# Altium integrated library Switches.IntLib: 7 symbols
Pins are listed as number, name and electrical type; pins without a type are passive.

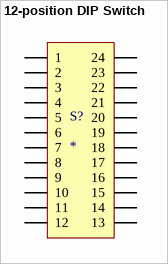
[diagram p0: symbol 12-position DIP Switch]

## 12-position DIP Switch
designator S?
Manufacturer: CTS Electronics; Manufacturer No.: 209-12LPST
footprint 12-Position DIP Switch
pins: 1, 2, 3, 4, 5, 6, 7, 8, 9, 10, 11, 12, 13, 14, 15, 16, 17, 18, 19, 20, 21, 22, 23, 24


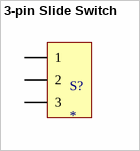
[diagram p1: symbol 3-pin Slide Switch]

## 3-pin Slide Switch
designator S?
Manufacturer: C&K; Mfg No.: OS102011MS2QN1
footprint 3-pin Slide Switch
pins: 1, 2, 3


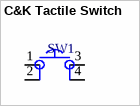
[diagram p2: symbol C&K Tactile Switch]

## C&K Tactile Switch
designator SW1, comment Tactile Switch  (value not drawn)
Supplier 1: Digi-Key; Supplier Part Number 1: CKN9085CT-ND
footprint C&K 4 pin Tactile Switch (Digikey: CKN9085CT-ND MFG: PTS645SH50SMTR92 LFS)
pins: 1, 2, 3, 4


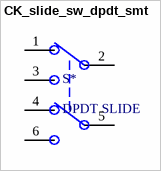
[diagram p3: symbol CK_slide_sw_dpdt_smt]

## CK_slide_sw_dpdt_smt
designator S*, comment DPDT SLIDE
SWITCH SLIDE DPDT 300MA 6V; Manufacturer 1: C&K; Manufacturer Part Number 1: JS202011SCQN; Supplier 1: Digi-Key; Supplier Part Number 1: 401-2002-1-ND
footprint CK_slide_sw_dpdt_smt (SWITCH SLIDE DPDT 300MA 6V)
pins: 1, 2, 3, 4, 5, 6


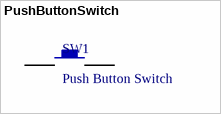
[diagram p4: symbol PushButtonSwitch]

## PushButtonSwitch
designator SW1, comment Push Button Switch
footprint Push Button Switch
pins: 1, 2


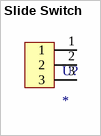
[diagram p5: symbol Slide Switch]

## Slide Switch
designator U?
footprint Slide Switch
pins: 1, 2, 3


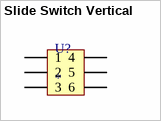
[diagram p6: symbol Slide Switch Vertical]

## Slide Switch Vertical
designator U?
Manufacturer: C&K; Manufacturer ID: JS202011CQN
pins: ?1 1, ?2 2, ?3 3, ?4 4, ?5 5, ?6 6